# Altium footprint library Custom Library.PcbLib: 35 footprints (part 1 of 3)
Each footprint in its own frame and in the unit in brackets; x right, y up, seen from the top. Pads: shape width x height; smd on the part's side, far side on the other; paste and mask are expansions set on the pad; w line width, h text height; cw(c..) or ccw(c..) is an arc to the next point about the centre after c.
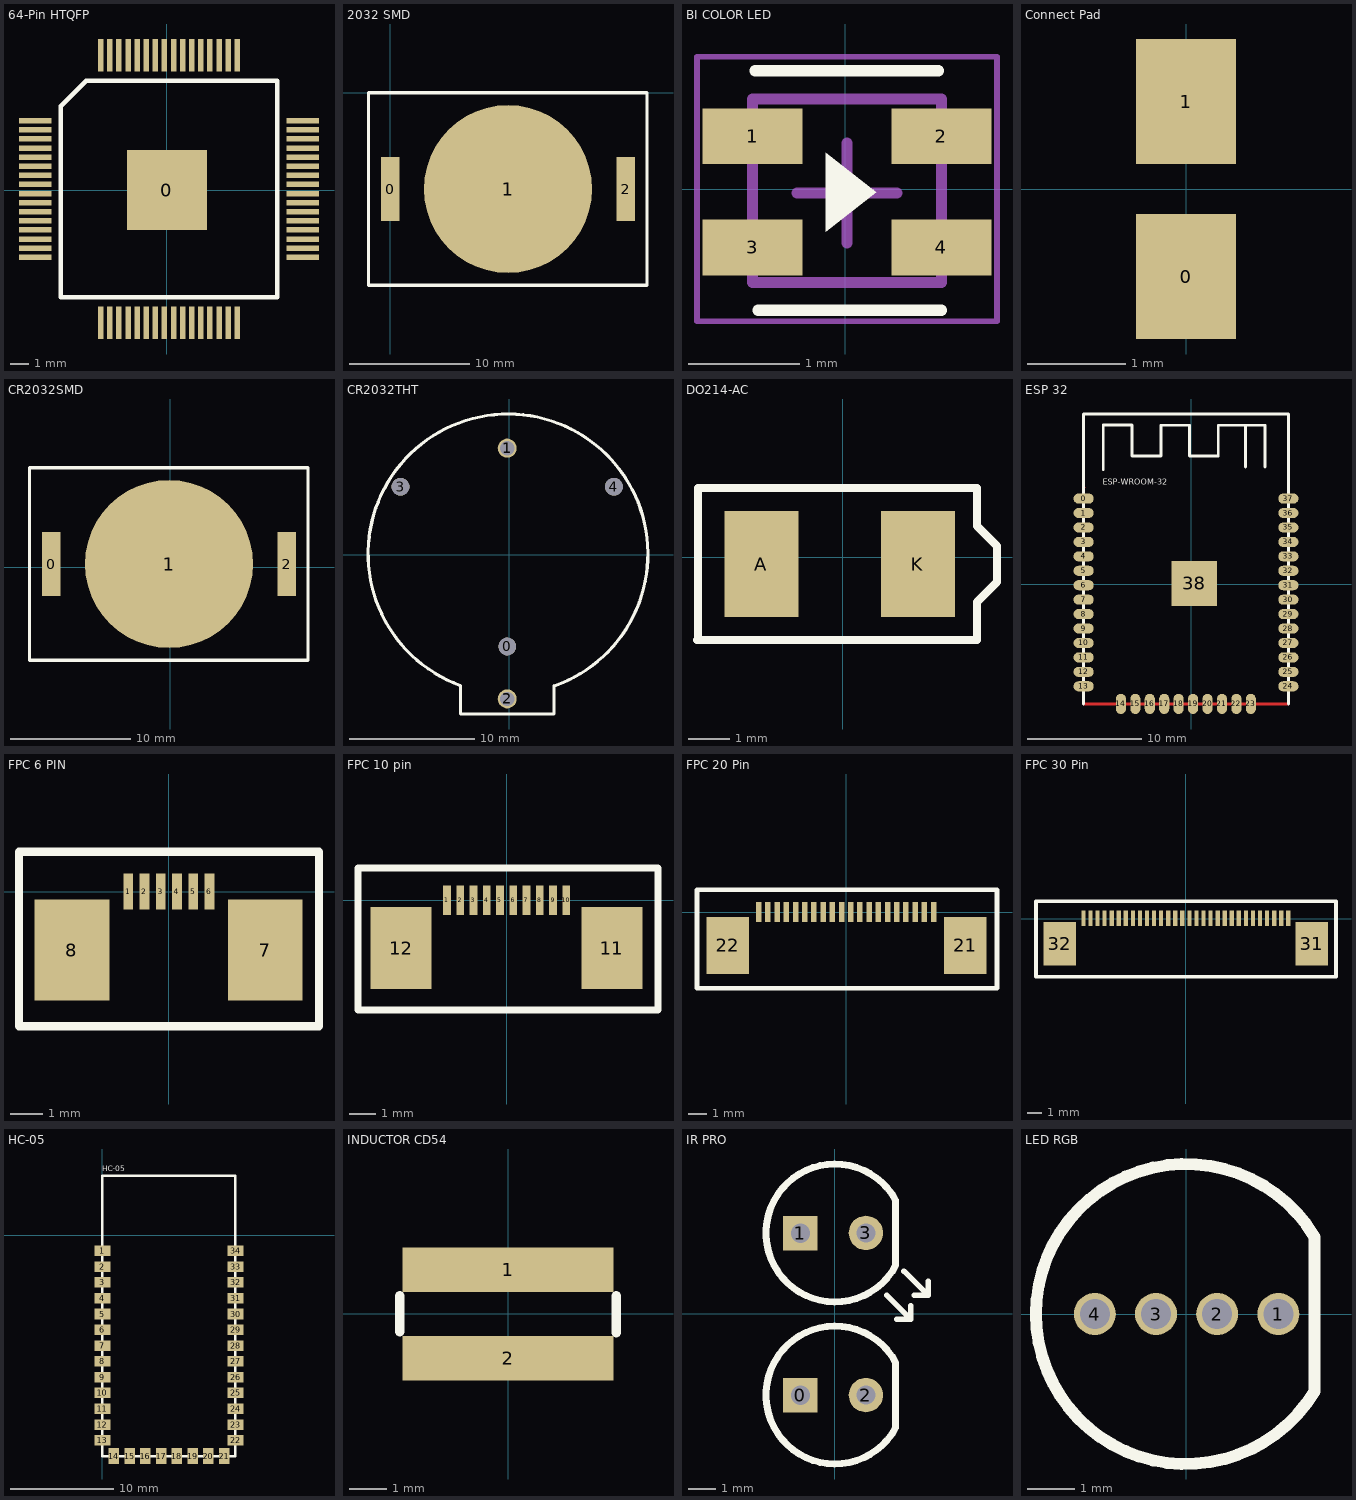
[diagram p0: the footprints below, top view; thin cyan lines are the x and y axes]

## 64-Pin HTQFP [mil]
pads (65):
  rect 173x173 smd: 0(0,0)
  rect 70x11.8 smd: 1(-285,150) 2(-285,130.31) 3(-285,110.63) 4(-285,90.94) 5(-285,71.26) 6(-285,51.58) 7(-285,31.89) 8(-285,12.21) 9(-285,-7.48) 10(-285,-27.16) 11(-285,-46.85) 12(-285,-66.53) 13(-285,-86.22) 14(-285,-105.91) 15(-285,-125.59) 16(-285,-145.28) 33(293.74,-145.28) 34(293.74,-125.59) 35(293.74,-105.91) 36(293.74,-86.22) 37(293.74,-66.53) 38(293.74,-46.85) 39(293.74,-27.16) 40(293.74,-7.48) 41(293.74,12.21) 42(293.74,31.89) 43(293.74,51.58) 44(293.74,71.26) 45(293.74,90.94) 46(293.74,110.63) 47(293.74,130.31) 48(293.74,150)
  rect 11.8x70 smd: 17(-143.27,-287.01) 18(-123.58,-287.01) 19(-103.9,-287.01) 20(-84.21,-287.01) 21(-64.53,-287.01) 22(-44.84,-287.01) 23(-25.16,-287.01) 24(-5.47,-287.01) 25(14.21,-287.01) 26(33.9,-287.01) 27(53.58,-287.01) 28(73.27,-287.01) 29(92.95,-287.01) 30(112.64,-287.01) 31(132.32,-287.01) 32(152.01,-287.01) 49(152.01,291.73) 50(132.32,291.73) 51(112.64,291.73) 52(92.95,291.73) 53(73.27,291.73) 54(53.58,291.73) 55(33.9,291.73) 56(14.21,291.73) 57(-5.47,291.73) 58(-25.16,291.73) 59(-44.84,291.73) 60(-64.53,291.73) 61(-84.21,291.73) 62(-103.9,291.73) 63(-123.58,291.73) 64(-143.27,291.73)
Top Overlay:
  lines w10: -230,-232.01 -230,181.73 -175,236.73 238.74,236.73 238.74,-232.01 -230,-232.01

## 2032 SMD [mil]
pads (3):
  rect 60x210 smd: 0(0,-315) 2(771.65,-315)
  round 550 smd: 1(385.83,-315)
Top Overlay:
  lines w10: -70,-630 840,-630 840,0 -70,0 -70,-630

## BI COLOR LED [mm]
pads (4):
  rect 0.9x0.5 smd: 1(-0.834,0.476) 2(0.866,0.476) 3(-0.834,-0.523) 4(0.866,-0.523)
Top Overlay:
  region: -0.178,0.33 -0.178,-0.381 0.279,-0.025
  lines w0.1: -0.812,1.067 0.838,1.067 ; -0.784,-1.088 0.866,-1.088
Mechanical 13:
  lines w0.1: -0.834,-0.838 -0.834,0.813 0.866,0.813 0.866,-0.838 -0.834,-0.838
Mechanical 15:
  lines w0.05: -1.334,-1.188 -1.334,1.194 1.366,1.194 1.366,-1.188 -1.334,-1.188
  lines w0.1: -0.434,-0.032 0.466,-0.032 ; 0.016,-0.482 0.016,0.418
3D body: height 0.55, standoff 0, extent -0.584,-0.888 0.616,0.762
3D body: height 0.55, standoff 0, extent -0.838,-0.888 -0.584,0.762
3D body: height 0.55, standoff 0, extent 0.61,-0.888 0.866,0.762

## Connect Pad [mil] "Connect Pad 2pin"
pads (2):
  rect 40x50 smd: 0(0,-35) 1(0,35)

## CR2032SMD [mil]
pads (3):
  rect 60x210 smd: 0(-390,10) 2(381.65,10)
  round 550 smd: 1(-4.17,10)
Top Overlay:
  lines w10: -460,-305 -460,325 450,325 450,-305 -460,-305

## CR2032THT [mil]
pads (5):
  round 56 hole 56: 0(-6,-289) 3(-343,215) 4(330,215)
  round 60 hole 45: 1(-6.5,336.5) 2(-6.5,-454.5)
Top Overlay:
  lines w10: 141,-412 141,-502 -154,-502 -154,-412 cw(c-4,3) 141.55,-413.58

## DO214-AC [mm]
pads (2):
  rect 1.78x2.54 smd: A(-1.956,-0.165) K(1.804,-0.165)
Top Overlay:
  lines w0.2: -3.505,-1.994 3.226,-1.994 3.226,-1.079 3.709,-0.597 3.709,0.267 3.226,0.749 3.226,1.664 -3.48,1.664 -3.48,-1.994

## ESP 32 [mil]
pads (39):
  oval 70x35 smd: 0(-372,296) 1(-372,246) 2(-372,196) 3(-372,146) 4(-372,96) 5(-372,46) 6(-372,-4) 7(-372,-54) 8(-372,-104) 9(-372,-154) 10(-372,-204) 11(-372,-254) 12(-372,-304) 13(-372,-354) 24(337,-354) 25(337,-304) 26(337,-254) 27(337,-204) 28(337,-154) 29(337,-104) 30(337,-54) 31(337,-4) 32(337,46) 33(337,96) 34(337,146) 35(337,196) 36(337,246) 37(337,296)
  oval 35x70 smd: 14(-243,-415) 15(-193,-415) 16(-143,-415) 17(-93,-415) 18(-43,-415) 19(7,-415) 20(57,-415) 21(107,-415) 22(157,-415) 23(207,-415)
  rect 157.5x157.5 smd: 38(11,2)
Top Layer:
  lines w10: -372,-415 337,-415 ; -372,333 -371,334
Top Overlay:
  lines w10: -372,-415 -372,589 337,589 337,-415 ; -304,396 -304,551 -204,551 -204,443 -104,443 -104,550 -5,550 -5,443 94,443 94,550 256,550 256,405 ; 188,405 188,550
  text "ESP-WROOM-32" at -306,344 h20

## FPC 6 PIN [mm] "0.5mm Pitch"
pads (8):
  rect 0.3x1.1 smd: 1(-1.246,0) 2(-0.746,0) 3(-0.246,0) 4(0.254,0) 5(0.754,0) 6(1.254,0)
  rect 2.3x3.1 smd: 7(2.972,-1.803) 8(-2.977,-1.803)
Top Overlay:
  lines w0.254: -4.603,-4.14 4.623,-4.14 4.623,1.219 -4.603,1.219 -4.603,-4.14

## FPC 10 pin [mm] "0.5mm Pitch"
pads (12):
  rect 0.3x1.1 smd: 1(-2.246,0) 2(-1.746,0) 3(-1.246,0) 4(-0.746,0) 5(-0.246,0) 6(0.254,0) 7(0.754,0) 8(1.254,0) 9(1.754,0) 10(2.254,0)
  rect 2.3x3.1 smd: 11(3.973,-1.803) 12(-3.977,-1.803)
Top Overlay:
  lines w0.254: -5.603,-4.14 5.715,-4.14 5.715,1.219 -5.603,1.219 -5.603,-4.14

## FPC 20 Pin [mm] "0.5mm Pitch"
pads (22):
  rect 0.3x1.1 smd: 1(-4.746,0) 2(-4.246,0) 3(-3.746,0) 4(-3.246,0) 5(-2.746,0) 6(-2.246,0) 7(-1.746,0) 8(-1.246,0) 9(-0.746,0) 10(-0.246,0) 11(0.254,0) 12(0.754,0) 13(1.254,0) 14(1.754,0) 15(2.254,0) 16(2.754,0) 17(3.254,0) 18(3.754,0) 19(4.254,0) 20(4.754,0)
  rect 2.3x3.1 smd: 21(6.477,-1.803) 22(-6.426,-1.803)
Top Overlay:
  lines w0.254: -8.103,-4.14 -8.103,1.219 8.204,1.219 8.204,-4.14 -8.103,-4.14

## FPC 30 Pin [mm] "0.5mm Pitch"
pads (32):
  rect 0.3x1.1 smd: 1(-7.246,0.025) 2(-6.746,0.025) 3(-6.246,0.025) 4(-5.746,0.025) 5(-5.246,0.025) 6(-4.746,0.025) 7(-4.246,0.025) 8(-3.746,0.025) 9(-3.246,0.025) 10(-2.746,0.025) 11(-2.246,0.025) 12(-1.746,0.025) 13(-1.246,0.025) 14(-0.746,0.025) 15(-0.246,0.025) 16(0.254,0.025) 17(0.754,0.025) 18(1.254,0.025) 19(1.754,0.025) 20(2.254,0.025) 21(2.754,0.025) 22(3.254,0.025) 23(3.754,0.025) 24(4.254,0.025) 25(4.754,0.025) 26(5.254,0.025) 27(5.754,0.025) 28(6.254,0.025) 29(6.754,0.025) 30(7.254,0.025)
  rect 2.3x3.1 smd: 31(8.93,-1.778) 32(-8.926,-1.778)
Top Overlay:
  lines w0.254: -10.603,-4.115 10.632,-4.115 10.632,1.245 -10.603,1.245 -10.603,-4.115

## HC-05 [mil] "Bluetooth module"
pads (34):
  rect 60x40 smd: 1(0,-60) 2(0,-120) 3(0,-180) 4(0,-240) 5(0,-300) 6(0,-360) 7(0,-420) 8(0,-480) 9(0,-540) 10(0,-600) 11(0,-660) 12(0,-720) 13(0,-780) 22(506,-780) 23(506,-720) 24(506,-660) 25(506,-600) 26(506,-540) 27(506,-480) 28(506,-420) 29(506,-360) 30(506,-300) 31(506,-240) 32(506,-180) 33(506,-120) 34(506,-60)
  rect 40x60 smd: 14(43,-840) 15(103,-840) 16(163,-840) 17(223,-840) 18(283,-840) 19(343,-840) 20(403,-840) 21(463,-840)
Top Overlay:
  lines w10: 0,-840 0,225 505,225 505,-840 0,-840
  text "HC-05" at 0,235 h35

## INDUCTOR CD54 [mm]
pads (2):
  rect 5.7x1.2 smd: 1(0,1.194) 2(0,-1.206)
Top Overlay:
  lines w0.254: -2.921,-0.483 -2.921,0.483 ; 2.921,-0.508 2.921,0.483

## IR PRO [mil]
pads (4):
  rect 50x50 hole 28: 0(-50,-118) 1(-50,117)
  round 50 hole 28: 2(45,-117.8) 3(45,117.2)
Top Overlay:
  lines w8: 75,27 110,-8 ; 90,-8 110,-8 ; 100,62 135,27 ; 110,12 110,-8 ; 115,27 135,27 ; 135,47 135,27
  lines w10: 88.1,-165.19 cw(c0.04,-117.8) 88.1,-70.42 88.1,-165.19 ; 88.1,69.81 cw(c0.04,117.2) 88.1,164.58 88.1,69.81

## LED RGB [mil] "5mm RGB LED"
pads (4):
  round 35 hole 25: 1(77,0) 2(26,0) 3(-25,0) 4(-76,0)
Top Overlay:
  lines w10: 107.07,-64.51 cw(c0,0) 107.19,64.31 107.19,-64.39